# EAGLE library part 693120035011 (library Wurth_Elektronik_Electromechanic_Input-Output_Connectors_rev16a)
WR-CRD COMPACT FLASH CARD CONNECTOR HEADER SHROUDED TYPE 50PINS=>Code : Con_I-O_COM_CRD_Compact-Flash_693120035011 <http://katalog.we-online.de/media/images/eican/Con_I-O_COM_CRD_Compact-Flash_693120035011_pf2.jpg> Details see: http://katalog.we-online.de/en/em/693_120_035_011 Created 2014-07-09, Karrer Zheng 2014 (C) Würth Elektronik
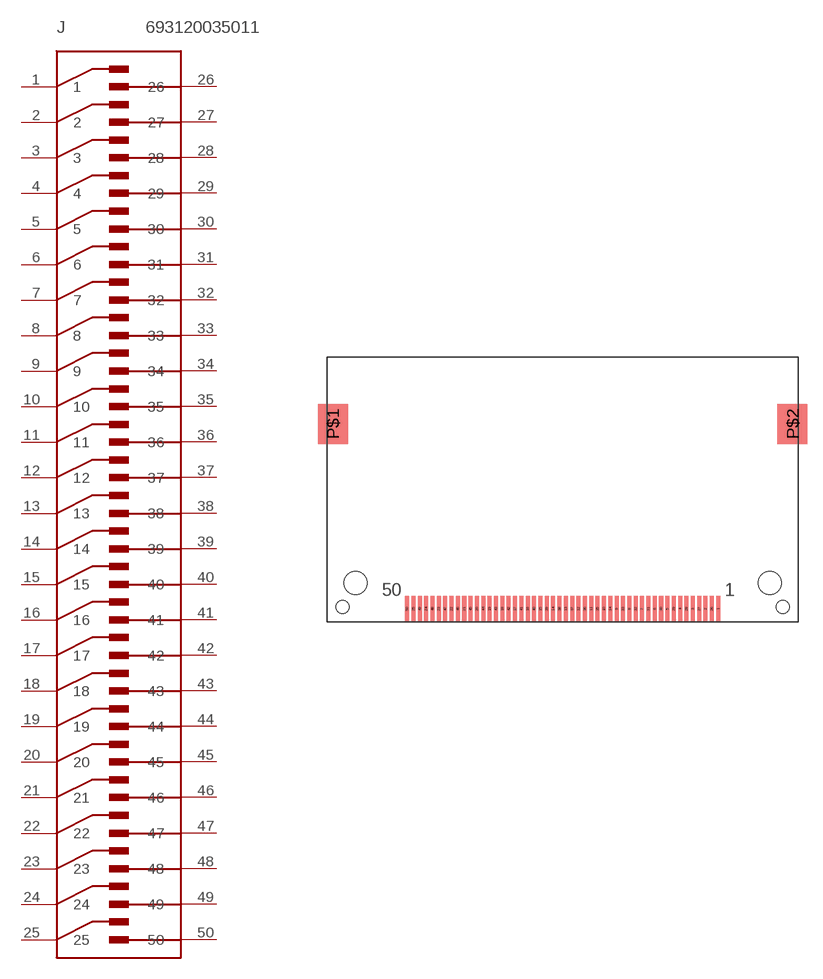
[diagram p99: symbol with the pads of 693120035011; footprint 693120035011]

Designator prefix J

## 693120035011  [693120035011]
1  1
2  2
3  3
4  4
5  5
6  6
7  7
8  8
9  9
10  10
11  11
12  12
13  13
14  14
15  15
16  16
17  17
18  18
19  19
20  20
21  21
22  22
23  23
24  24
25  25
26  26
27  27
28  28
29  29
30  30
31  31
32  32
33  33
34  34
35  35
36  36
37  37
38  38
39  39
40  40
41  41
42  42
43  43
44  44
45  45
46  46
47  47
48  48
49  49
50  50

## Footprint 693120035011 (pad centres in mm)
WR-CRD COMPACT FLASH CARD CONNECTOR HEADER SHROUDED TYPE 50PINS
smd 0.4 x 2.6: 1 15.875,0; 2 14.605,0; 3 13.335,0; 4 12.065,0; 5 10.795,0; 6 9.525,0; 7 8.255,0; 8 6.985,0; 9 5.715,0; 10 4.445,0; 11 3.175,0; 12 1.905,0; 13 0.635,0; 14 -0.635,0; 15 -1.905,0; 16 -3.175,0; 17 -4.445,0; 18 -5.715,0; 19 -6.985,0; 20 -8.255,0; 21 -9.525,0; 22 -10.795,0; 23 -12.065,0; 24 -13.335,0; 25 -14.605,0; 26 15.24,0; 27 13.97,0; 28 12.7,0; 29 11.43,0; 30 10.16,0; 31 8.89,0; 32 7.62,0; 33 6.35,0; 34 5.08,0; 35 3.81,0; 36 2.54,0; 37 1.27,0; 38 0,0; 39 -1.27,0; 40 -2.54,0; 41 -3.81,0; 42 -5.08,0; 43 -6.35,0; 44 -7.62,0; 45 -8.89,0; 46 -10.16,0; 47 -11.43,0; 48 -12.7,0; 49 -13.97,0; 50 -15.24,0
smd 3 x 4: P$1 -22.663,18.5; P$2 23.297,18.5
hole 2.3 at -20.383,2.6
hole 2.3 at 21.017,2.6
hole 1.3 at -21.683,0.2
hole 1.3 at 22.317,0.2